# EAGLE library part MBI5168 (library X893)
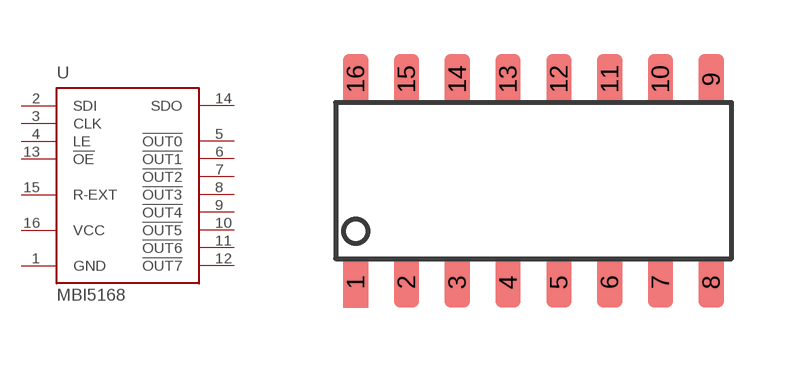
[diagram p165: symbol with the pads of SOP16-150; footprint SOP16-150]

Designator prefix U

## MBI5168CD  [SOP16-150]
1  GND  sup
2  SDI
3  CLK
4  LE
5  !OUT0  pas
6  !OUT1  pas
7  !OUT2  pas
8  !OUT3  pas
9  !OUT4  pas
10  !OUT5  pas
11  !OUT6  pas
12  !OUT7  pas
13  !OE
14  SDO
15  R-EXT  pas
16  VCC  pwr

## Footprint SOP16-150 (pad centres in mm)
smd 0.635 x 1.27: 1 -4.445,-2.54; 2 -3.175,-2.54; 3 -1.905,-2.54; 4 -0.635,-2.54; 5 0.635,-2.54; 6 1.905,-2.54; 7 3.175,-2.54; 8 4.445,-2.54; 9 4.445,2.54; 10 3.175,2.54; 11 1.905,2.54; 12 0.635,2.54; 13 -0.635,2.54; 14 -1.905,2.54; 15 -3.175,2.54; 16 -4.445,2.54